# Altium schematic symbol library SOT-23 SS8050 Y1.Schlib: 1 symbol
Pins are listed as number, name and electrical type; pins without a type are passive.

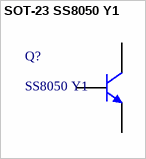
[diagram p0: symbol SOT-23 SS8050 Y1]

## SOT-23 SS8050 Y1
designator Q?, comment SS8050 Y1
三极管
footprint SOT-23(SOT-23-3)
pins: 1 B, 2 E, 3 C